# EAGLE library part AD7731BNZ (library eagle-lib)
24-Bit Sigma-Delta ADC
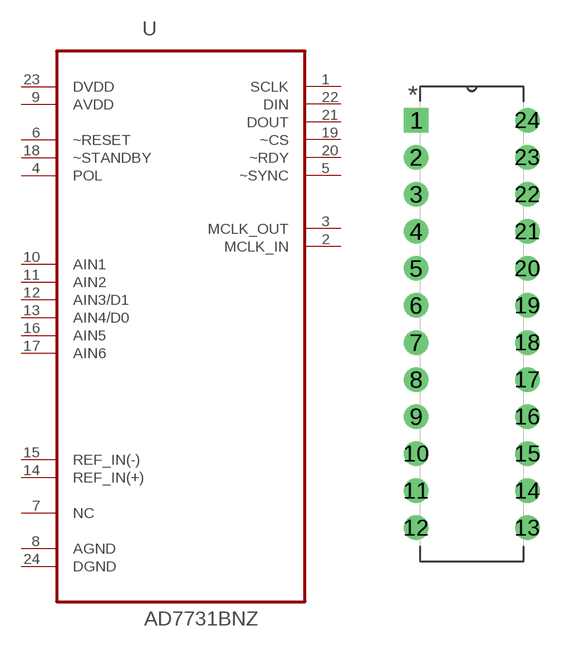
[diagram p0: symbol with the pads of DIP254P762X533-24; footprint DIP254P762X533-24]

Designator prefix U

## AD7731BNZ (MPN: AD7731BNZ; OC_FARNELL: 1079298; OC_NEWARK: 19M0894; PACKAGE: PDIP-24; SUPPLIER: ANALOG DEVICES)  [DIP254P762X533-24]
1  SCLK  in
2  MCLK_IN  in
3  MCLK_OUT  out
4  POL  in
5  ~SYNC  in
6  ~RESET  in
7  NC  nc
8  AGND  pas
9  AVDD  pwr
10  AIN1  in
11  AIN2  in
12  AIN3/D1  in
13  AIN4/D0  in
14  REF_IN(+)  in
15  REF_IN(-)  in
16  AIN5  in
17  AIN6  in
18  ~STANDBY  in
19  ~CS  in
20  ~RDY  out
21  DOUT  out
22  DIN  in
23  DVDD  pwr
24  DGND  pas

## Footprint DIP254P762X533-24 (pad centres in mm)
drill 1.118 square: 1 -7.62,27.94
drill 1.118: 2 -7.62,25.4; 3 -7.62,22.86; 4 -7.62,20.32; 5 -7.62,17.78; 6 -7.62,15.24; 7 -7.62,12.7; 8 -7.62,10.16; 9 -7.62,7.62; 10 -7.62,5.08; 11 -7.62,2.54; 12 -7.62,0; 13 0,0; 14 0,2.54; 15 0,5.08; 16 0,7.62; 17 0,10.16; 18 0,12.7; 19 0,15.24; 20 0,17.78; 21 0,20.32; 22 0,22.86; 23 0,25.4; 24 0,27.94